# Altium schematic symbol library SoldeerBoutLib.SchLib: 26 symbols
Pins are listed as number, name and electrical type; pins without a type are passive.

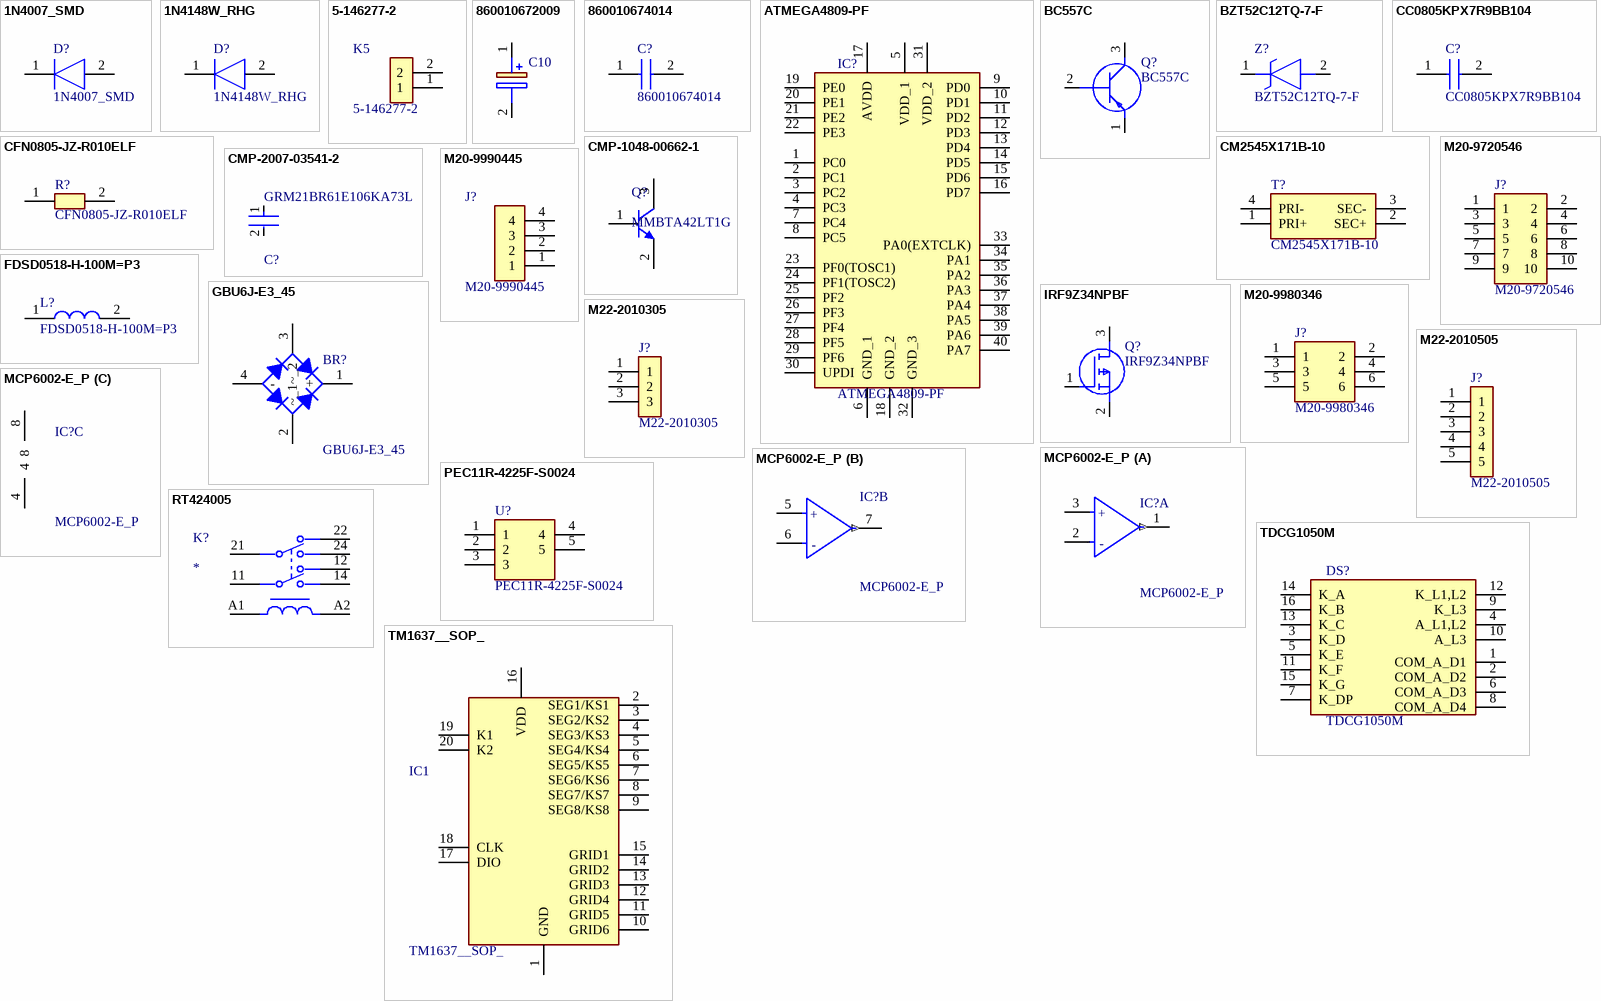
[diagram p0: symbols 1N4007_SMD to TM1637__SOP_]

## 1N4007_SMD
designator D?
Diode; Manufacturer_Name: MULTICOMP; Manufacturer_Part_Number: 1N4007 SMD; Datasheet Link: https://componentsearchengine.com/Datasheets/2/1N4007 SMD.pdf; Height: 2.62mm
footprint DIOM5027X262N
pins: 1 K, 2 A

## 1N4148W_RHG
designator D?
Diode; Manufacturer_Name: Taiwan Semiconductor; Manufacturer_Part_Number: 1N4148W RHG; Datasheet Link: https://mouser.componentsearchengine.com/Datasheets/1/1N4148W RHG.pdf; Height: 1.15mm; Mouser Part Number: 821-1N4148WRHG; Mouser Price/Stock: https://www.mouser.co.uk/ProductDetail/Taiwan-Semiconductor/1N4148W-RHG?qs=KwaGCOX4wIag2YPLXylAvA%3D%3D; Arrow Part Number: 1N4148W RHG; Arrow Price/Stock: https://www.arrow.com/en/products/1n4148wrhg/taiwan-semiconductor?region=nac
footprint 1N4148WRHG
pins: 1 K, 2 A

## 5-146277-2
designator K5
Connector; Manufacturer_Name: TE Connectivity; Datasheet Link: https://componentsearchengine.com//5-146277-2.pdf; Height: 8.23mm; Mouser2 Part Number: 571-5-146277-2; Mouser2 Price/Stock: https://www.mouser.com/Search/Refine.aspx?Keyword=571-5-146277-2; Manufacturer_Part_Number: 5-146277-2
footprint HDRV2W67P0X254_1X2_467X234X823P
pins: 1, 2

## 860010672009
designator C10, comment 10µ  (value not drawn)
Capacitor Polarised; Manufacturer_Name: Wurth Elektronik; Manufacturer_Part_Number: 860010672009; Datasheet Link: https://componentsearchengine.com/Datasheets/2/860010672009.pdf; Height: 12.5mm; Mouser Part Number: 710-860010672009; Mouser Price/Stock: https://www.mouser.com/Search/Refine.aspx?Keyword=710-860010672009
footprint CAPPRD200W52D500H1250
pins: 1 +, 2 -

## 860010674014
designator C?
Capacitor; Manufacturer_Name: Wurth Elektronik; Datasheet Link: http://uk.rs-online.com/web/p/products/8397074; Height: 13mm; Manufacturer_Part_Number: 860010674014; Mouser Part Number: 710-860010674014; Mouser Price/Stock: https://www.mouser.co.uk/ProductDetail/Wurth-Elektronik/860010674014?qs=0KOYDY2FL2%2Fk%2F1RkUOIquw%3D%3D
footprint CAPPRD350W52D800H1300
pins: 1 +, 2 -

## ATMEGA4809-PF
designator IC?
Integrated Circuit; Manufacturer_Name: Microchip; Datasheet Link: http://ww1.microchip.com/downloads/en/DeviceDoc/40-pin-Data-Sheet-megaAVR-0-series-DS40002104A.pdf; Height: 6.35mm; Manufacturer_Part_Number: ATMEGA4809-PF; Mouser Part Number: 556-ATMEGA4809-PF; Mouser Price/Stock: https://www.mouser.co.uk/ProductDetail/Microchip-Technology-Atmel/ATMEGA4809-PF?qs=T3oQrply3y9UlpZbCygk%252BQ%3D%3D
footprint DIP1543W58P254L5175H635Q40N
pins: 1 PC0, 2 PC1, 3 PC2, 4 PC3, 5 VDD_1, 6 GND_1, 7 PC4, 8 PC5, 9 PD0, 10 PD1, 11 PD2, 12 PD3, 13 PD4, 14 PD5, 15 PD6, 16 PD7, 17 AVDD, 18 GND_2, 19 PE0, 20 PE1, 21 PE2, 22 PE3, 23 PF0(TOSC1), 24 PF1(TOSC2), 25 PF2, 26 PF3, 27 PF4, 28 PF5, 29 PF6, 30 UPDI, 31 VDD_2, 32 GND_3, 33 PA0(EXTCLK), 34 PA1, 35 PA2, 36 PA3, 37 PA4, 38 PA5, 39 PA6, 40 PA7

## BC557C
designator Q?
Transistor BJT PNP; Manufacturer_Name: NXP; Datasheet Link: http://uk.rs-online.com/web/p/products/1124775; Height: 5.2mm; Manufacturer_Part_Number: BC557C; Mouser Part Number: 771-BC557C; Mouser Price/Stock: https://www.mouser.co.uk/ProductDetail/NXP-Semiconductors/BC557C?qs=84A%2FDAdkstLO1yR4NjQrgg%3D%3D
footprint BC557C
pins: 1 E, 2 B, 3 C

## BZT52C12TQ-7-F
designator Z?
Zener Diode; Manufacturer_Name: Diodes Inc.; Datasheet Link: https://www.diodes.com/assets/Datasheets/ds30502.pdf; Height: 0.65mm; Manufacturer_Part_Number: BZT52C12TQ-7-F; Mouser Part Number: 621-BZT52C12TQ-7-F; Mouser Price/Stock: https://www.mouser.co.uk/ProductDetail/Diodes-Incorporated/BZT52C12TQ-7-F?qs=W0yvOO0ixfHNmW9JdWu87w%3D%3D; Arrow Part Number: BZT52C12TQ-7-F; Arrow Price/Stock: https://www.arrow.com/en/products/bzt52c12tq-7-f/diodes-incorporated?region=nac
footprint SODFL1608X65N
pins: 1 K, 2 A

## CC0805KPX7R9BB104
designator C?
Capacitor; Manufacturer_Name: KEMET; Datasheet Link: https://www.yageo.com/upload/media/product/productsearch/datasheet/mlcc/UPY-GPHC_X7R_6.3V-to-50V_20.pdf; Height: 0.95mm; Manufacturer_Part_Number: CC0805KPX7R9BB104
footprint CAPC2012X95N
pins: 1, 2

## CFN0805-JZ-R010ELF
designator R?
Resistor; Manufacturer_Name: Bourns; Datasheet Link: https://www.bourns.com/docs/Product-Datasheets/CFN.pdf; Height: 0.9mm; Manufacturer_Part_Number: CFN0805-JZ-R010ELF
footprint RESC2012X90N
pins: 1, 2

## CM2545X171B-10
designator T?
Transformer; Manufacturer_Name: Laird Technologies; Datasheet Link: https://datasheet.datasheetarchive.com/originals/dk/DKDS-7/122753.pdf; Height: 9.5mm; Manufacturer_Part_Number: CM2545X171B-10; Mouser Part Number: N/A; Mouser Price/Stock: https://www.mouser.co.uk/ProductDetail/Laird/CM2545X171B-10?qs=PzGy0jfpSMtNfkEypgU65A%3D%3D; Arrow Part Number: CM2545X171B-10; Arrow Price/Stock: https://www.arrow.com/en/products/cm2545x171b-10/laird-technologies
footprint CM2545X171B10
pins: 1 PRI+, 2 SEC+, 3 SEC-, 4 PRI-

## CMP-1048-00662-1
designator Q?, comment MMBTA42LT1G
High Voltage Transistor, NPN Silicon, 3-Pin SOT-23, Pb-Free, Tape and Reel; Manufacturer: On Semiconductor; fT Min (MHz): 50; IC Continuous (A): 0.5; ComponentLink1URL: http://www.onsemi.com/; ComponentLink3URL: http://www.onsemi.cn/pub_link/Collateral/318-08.PDF; RoHS: TRUE; ComponentLink2Description: Datasheet; PartNumber: MMBTA42LT1G; Polarity: NPN; DatasheetVersion: Rev. 12; PackageReference: SOT-23-3-318-08; PackageDescription: 3-Pin Small Outline Transistor, Body 2.92 x 1.3 mm, Pitch 0.95 mm; ComponentLink3Description: Package Specification; ComponentLink1Description: Manufacturer URL; Packing: Tape and Reel; PackageVersion: Rev. AP, 11/2009; Mounting Technology: Surface Mount; ComponentLink2URL: http://www.onsemi.cn/pub_link/Collateral/MMBTA42LT1-D.PDF
footprint ONSC-SOT-23-3-318-08_V (SOT23, 3-Leads, Body 2.92x1.3mm, Pitch 0.95mm)
pins: 1 B, 2 E, 3 C

## CMP-2007-03541-2
designator C?, comment GRM21BR61E106KA73L
Chip Multilayer Ceramic Capacitors for General Purpose, 0805, 10uF, X5R, 15%, 10%, 25V; Length: 2mm; Depth: 1.25mm; Termination: SMD/SMT; Voltage: 25V; Height: 1.25mm; Material: Ceramic; Thickness: 0.053inch; Radiation Hardening: No; Min Operating Temperature: -55°C; Width: 0.049inch; Package Quantity: 1; Mount: Surface Mount; Dielectric: X5R; Packaging: Tape and Reel; Capacitance: 10uF; Voltage Rating (DC): 25V; Lead Free: Lead Free; Max Operating Temperature: 85°C; Case Code (Imperial): 0805; Case/Package: 0805; Tolerance: 10%; Voltage Rating: 25V; Case Code (Metric): 2012
footprint FP-GRM21B-0_15-MFG
footprint FP-GRM21B-0_15-IPC_C
footprint FP-GRM21B-0_15-IPC_B
footprint FP-GRM21B-0_15-IPC_A (Footprint not found)
pins: 1, 2

## FDSD0518-H-100M=P3
designator L?
Inductor; Manufacturer_Name: Murata Electronics; Datasheet Link: https://psearch.en.murata.com/inductor/product/FDSD0518-H-100M%23.html; Height: 1.8mm; Manufacturer_Part_Number: FDSD0518-H-100M=P3
footprint FDSD0518H100MP3
pins: 1, 2

## GBU6J-E3_45
designator BR?
Bridge Rectifier; Manufacturer_Name: Vishay; Manufacturer_Part_Number: GBU6J-E3/45; Datasheet Link: http://www.vishay.com/docs/88615/gbu6a.pdf; Height: 18.8mm
footprint GBU6JE345
pins: 1 +, 2 ~_1, 3 ~_2, 4 -

## IRF9Z34NPBF
designator Q?
MOSFET (P-Channel); Manufacturer_Name: Infineon; Datasheet Link: https://www.infineon.com/dgdl/irf9z34npbf.pdf?fileId=5546d462533600a40153561220af1ddd; Height: 4.69mm; Manufacturer_Part_Number: IRF9Z34NPBF; Mouser Part Number: 942-IRF9Z34NPBF; Mouser Price/Stock: https://www.mouser.co.uk/ProductDetail/Infineon-IR/IRF9Z34NPBF?qs=9%252BKlkBgLFf16a%2FvlD%252BMCtQ%3D%3D; Arrow Part Number: IRF9Z34NPBF; Arrow Price/Stock: https://www.arrow.com/en/products/irf9z34npbf/infineon-technologies-ag?region=nac
footprint TO254P469X1042X1967-3P
pins: 1 G, 2 S, 3 D

## M20-9720546
designator J?
Connector; Manufacturer_Name: Harwin; Datasheet Link: https://cdn.harwin.com/pdfs/M20-972.pdf; Height: 9.54mm; Manufacturer_Part_Number: M20-9720546
footprint HDRV10W64P254_2X5_1270X508X954P
pins: 1, 2, 3, 4, 5, 6, 7, 8, 9, 10

## M20-9980346
designator J?
Connector; Manufacturer_Name: Harwin; Datasheet Link: https://componentsearchengine.com//M20-9980346.pdf; Height: 8.68mm; Mouser2 Part Number: 855-M20-9980346; Mouser2 Price/Stock: https://www.mouser.com/Search/Refine.aspx?Keyword=855-M20-9980346; Manufacturer_Part_Number: M20-9980346
footprint HDRV6W64P254_2X3_762X508X868P
pins: 1, 2, 3, 4, 5, 6

## M20-9990445
designator J?
Connector; Manufacturer_Name: Harwin; Datasheet Link: https://cdn.harwin.com/pdfs/M20-999.pdf; Height: 8.64mm; Manufacturer_Part_Number: M20-9990445
footprint HDRV4W64P0X254_1X4_1016X254X864P
pins: 1, 2, 3, 4

## M22-2010305
designator J?
Connector; Manufacturer_Name: Harwin; Datasheet Link: https://componentsearchengine.com//M22-2010305.pdf; Height: 5.25mm; Mouser2 Part Number: 855-M22-2010305; Mouser2 Price/Stock: https://www.mouser.com/Search/Refine.aspx?Keyword=855-M22-2010305; Manufacturer_Part_Number: M22-2010305
footprint HDRV3W60P0X200_1X3_600X200X525P
pins: 1, 2, 3

## M22-2010505
designator J?
Connector; Manufacturer_Name: Harwin; Datasheet Link: https://datasheet.datasheetarchive.com/originals/distributors/Datasheets-20/DSA-391131.pdf; Height: 5.3mm; Manufacturer_Part_Number: M22-2010505
footprint HDRV5W50P0X200_1X5_1000X200X530P
pins: 1, 2, 3, 4, 5

## MCP6002-E_P
designator IC?
Integrated Circuit; Manufacturer_Name: Microchip; Manufacturer_Part_Number: MCP6002-E/P; Datasheet Link: http://componentsearchengine.com/Datasheets/3/MCP6002-E_P.pdf; Height: 5.334mm; Mouser Part Number: 579-MCP6002-E/P; Mouser Price/Stock: https://www.mouser.co.uk/ProductDetail/Microchip-Technology/MCP6002-E-P?qs=hul3WK2zl4pqRWzdnAsu%2FQ%3D%3D; Arrow Part Number: MCP6002-E/P; Arrow Price/Stock: https://www.arrow.com/en/products/mcp6002-ep/microchip-technology?region=nac
footprint DIP781W56P254L950H533Q8N
part A pins: 1 2OUT (out), 2 2IN- (hiz), 3 2IN+ (hiz)
part B pins: 5 2IN+ (hiz), 6 2IN- (hiz), 7 2OUT (out)
part C pins: 4, 8
part A text: +; -
part B text: +; -

## PEC11R-4225F-S0024
designator U?
Undefined or Miscellaneous; Manufacturer_Name: Bourns; Datasheet Link: https://componentsearchengine.com/Datasheets/1/PEC11R-4225F-S0024.pdf; Manufacturer_Part_Number: PEC11R-4225F-S0024; Mouser Part Number: 652-PEC11R-4225F-S24; Mouser Price/Stock: https://www.mouser.co.uk/ProductDetail/Bourns/PEC11R-4225F-S0024?qs=Zq5ylnUbLm4N6UNkPX3pkQ%3D%3D; Arrow Part Number: PEC11R-4225F-S0024; Arrow Price/Stock: https://www.arrow.com/en/products/pec11r-4225f-s0024/bourns?region=nac
footprint PEC12R-4XXXF-SXXXX_1
pins: 1, 2, 3, 4, 5

## RT424005
designator K?
Relay or Contactor; Manufacturer_Name: TE Connectivity; Manufacturer_Part_Number: RT424005; Datasheet Link: https://www.te.com/commerce/DocumentDelivery/DDEController?Action=showdoc&DocId=Data+Sheet%7FRT2%7F1014%7Fpdf%7FEnglish%7FENG_DS_RT2_1014.pdf%7F5-1393243-9; Mouser Part Number: 655-RT424005; Mouser Price/Stock: https://www.mouser.co.uk/ProductDetail/TE-Connectivity-Schrack/RT424005?qs=KKrrU%252BaSadKRsQcVuAjnsQ%3D%3D; Arrow Part Number: RT424005; Arrow Price/Stock: https://www.arrow.com/en/products/rt424005/te-connectivity?region=nac
footprint RT42
pins: 11, 12, 14, 21, 22, 24, A1, A2

## TDCG1050M
designator DS?
Display; Manufacturer_Name: Vishay; Datasheet Link: https://www.vishay.com/docs/83180/tdcx10x0m.pdf; Height: 7.25mm; Manufacturer_Part_Number: TDCG1050M; Mouser Part Number: 78-TDCG1050; Mouser Price/Stock: https://www.mouser.co.uk/ProductDetail/Vishay-Semiconductors/TDCG1050M?qs=RzxYCzJDjPUa0IQ9xsk9iw%3D%3D; Arrow Part Number: TDCG1050M; Arrow Price/Stock: https://www.arrow.com/en/products/tdcg1050m/vishay?region=nac
footprint DIPS1016W75P254L4020H725Q16N
pins: 1 COM_A_D1, 2 COM_A_D2, 3 K_D, 4 A_L1,L2, 5 K_E, 6 COM_A_D3, 7 K_DP, 8 COM_A_D4, 9 K_L3, 10 A_L3, 11 K_F, 12 K_L1,L2, 13 K_C, 14 K_A, 15 K_G, 16 K_B

## TM1637__SOP_
designator IC1
Integrated Circuit; Manufacturer_Name: TITAN MICRO ELECTRONICS; Manufacturer_Part_Number: TM1637 (SOP); Datasheet Link: https://www.mcielectronics.cl/website_MCI/static/documents/Datasheet_TM1637.pdf; Height: 2.8mm
footprint SOIC127P1045X280-20N
pins: 1 GND, 2 SEG1/KS1, 3 SEG2/KS2, 4 SEG3/KS3, 5 SEG4/KS4, 6 SEG5/KS5, 7 SEG6/KS6, 8 SEG7/KS7, 9 SEG8/KS8, 10 GRID6, 11 GRID5, 12 GRID4, 13 GRID3, 14 GRID2, 15 GRID1, 16 VDD, 17 DIO, 18 CLK, 19 K1, 20 K2